# EAGLE library part 20-DEV (library packages)
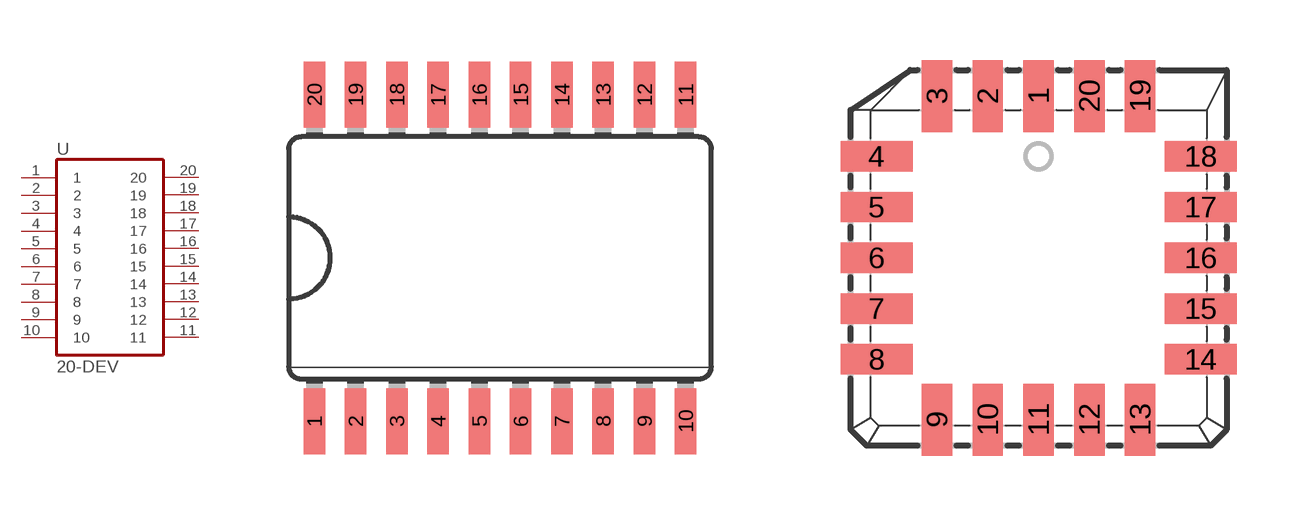
[diagram p3: symbol with the pads of SO20W; footprints SO20W, PLCC20]

Designator prefix -

## 20-DEVSO20W  [SO20W]
1  1
2  2
3  3
4  4
5  5
6  6
7  7
8  8
9  9
10  10
11  11
12  12
13  13
14  14
15  15
16  16
17  17
18  18
19  19
20  20

## 20-DEVPLCC20  [PLCC20]
Pads as for SO20W

## Footprint SO20W (pad centres in mm)
Wide Small Outline package 300 mil
smd 0.66 x 2.032: 1 -5.715,-5.029; 2 -4.445,-5.029; 3 -3.175,-5.029; 4 -1.905,-5.029; 5 -0.635,-5.029; 6 0.635,-5.029; 7 1.905,-5.029; 8 3.175,-5.029; 9 4.445,-5.029; 10 5.715,-5.029; 11 5.715,5.029; 12 4.445,5.029; 13 3.175,5.029; 14 1.905,5.029; 15 0.635,5.029; 16 -0.635,5.029; 17 -1.905,5.029; 18 -3.175,5.029; 19 -4.445,5.029; 20 -5.715,5.029

## Footprint PLCC20 (pad centres in mm)
Plastic Leaded Chip Carrier
smd 0.76 x 1.8: 1 0,4.05; 2 -1.27,4.05; 3 -2.54,4.05; 9 -2.54,-4.05; 10 -1.27,-4.05; 11 0,-4.05; 12 1.27,-4.05; 13 2.54,-4.05; 19 2.54,4.05; 20 1.27,4.05
smd 1.8 x 0.76: 4 -4.05,2.54; 5 -4.05,1.27; 6 -4.05,0; 7 -4.05,-1.27; 8 -4.05,-2.54; 14 4.05,-2.54; 15 4.05,-1.27; 16 4.05,0; 17 4.05,1.27; 18 4.05,2.54